# Altium footprint library digital_synth_common.PcbLib: 6 footprints
Each footprint in its own frame and in the unit in brackets; x right, y up, seen from the top. Pads: shape width x height; smd on the part's side, far side on the other; paste and mask are expansions set on the pad; w line width, h text height; cw(c..) or ccw(c..) is an arc to the next point about the centre after c.
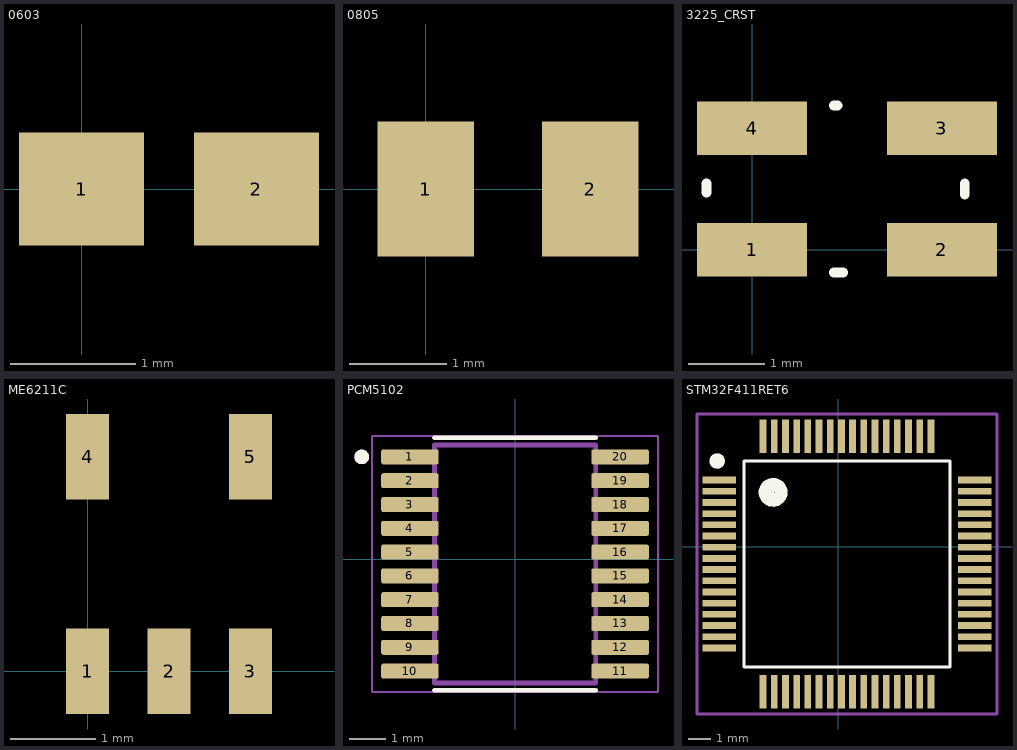
[diagram p0: the footprints below, top view; thin cyan lines are the x and y axes]

## 0603 [mm]
pads (2):
  rect 1x0.9 smd: 1(0,0) 2(1.4,0)
3D body "C0603.STEP": height 0.81, standoff 0.01, extent -0.1,-0.45 1.5,0.451

## 0805 [mm]
pads (2):
  rect 1x1.4 smd: 1(0,0) 2(1.7,0)
3D body "C0805.step": height 0.74, standoff 0.01, extent -0.129,-0.628 1.883,0.628

## 3225_CRST [mm]
pads (4):
  rect 1.45x0.7 smd: 1(0,0) 2(2.5,0) 3(2.5,1.6) 4(0,1.6)
Top Overlay:
  lines w0.127: -0.6,0.75 -0.6,0.875 ; 1.075,-0.3 1.2,-0.3 ; 1.075,1.9 1.125,1.9 ; 2.8,0.725 2.8,0.875
3D body "3225 SMD Crystal Oscillator.step": height 0.7, standoff 0, extent -0.35,-0.45 2.85,2.05

## ME6211C [mm]
pads (5):
  rect 0.5x1 smd: 1(0,0) 2(0.95,0) 3(1.9,0) 4(0,2.5) 5(1.9,2.5)
3D body "ME6211C33M5G.stp": height 1.45, standoff 0, extent -0.502,-0.168 2.433,2.657

## PCM5102 [mm]
pads (20):
  rrect25% 1.57x0.41 smd: 1(-2.87,2.798) 2(-2.87,2.148) 3(-2.87,1.498) 4(-2.87,0.848) 5(-2.87,0.198) 6(-2.87,-0.452) 7(-2.87,-1.102) 8(-2.87,-1.752) 9(-2.87,-2.402) 10(-2.87,-3.052) 11(2.87,-3.052) 12(2.87,-2.402) 13(2.87,-1.752) 14(2.87,-1.102) 15(2.87,-0.452) 16(2.87,0.198) 17(2.87,0.848) 18(2.87,1.498) 19(2.87,2.148) 20(2.87,2.798)
Top Overlay:
  circle w0.2: c-4.19,2.798 r0.1
  lines w0.127: -2.2,-3.577 2.2,-3.577 ; -2.2,3.323 2.2,3.323
Mechanical 13:
  circle w0.2: c-4.19,2.798 r0.1
  lines w0.127: -2.2,-3.377 2.2,-3.377 2.2,3.123 -2.2,3.123 -2.2,-3.377
Mechanical 15:
  lines w0.05: -3.905,-3.627 3.905,-3.627 3.905,3.373 -3.905,3.373 -3.905,-3.627
3D body "PCM5102APWR.step": height 1.2, standoff 0, extent -3.2,-3.377 3.2,3.123

## STM32F411RET6 [mm]
pads (64):
  rect 1.5x0.3 smd: 1(-5.319,2.988) 2(-5.319,2.488) 3(-5.319,1.988) 4(-5.319,1.488) 5(-5.319,0.988) 6(-5.319,0.488) 7(-5.319,-0.012) 8(-5.319,-0.512) 9(-5.319,-1.012) 10(-5.319,-1.512) 11(-5.319,-2.012) 12(-5.319,-2.512) 13(-5.319,-3.012) 14(-5.319,-3.512) 15(-5.319,-4.012) 16(-5.319,-4.512) 33(6.081,-4.512) 34(6.081,-4.012) 35(6.081,-3.512) 36(6.081,-3.012) 37(6.081,-2.512) 38(6.081,-2.012) 39(6.081,-1.512) 40(6.081,-1.012) 41(6.081,-0.512) 42(6.081,-0.012) 43(6.081,0.488) 44(6.081,0.988) 45(6.081,1.488) 46(6.081,1.988) 47(6.081,2.488) 48(6.081,2.988)
  rect 0.3x1.5 smd: 17(-3.369,-6.462) 18(-2.869,-6.462) 19(-2.369,-6.462) 20(-1.869,-6.462) 21(-1.369,-6.462) 22(-0.869,-6.462) 23(-0.369,-6.462) 24(0.131,-6.462) 25(0.631,-6.462) 26(1.131,-6.462) 27(1.631,-6.462) 28(2.131,-6.462) 29(2.631,-6.462) 30(3.131,-6.462) 31(3.631,-6.462) 32(4.131,-6.462) 49(4.131,4.938) 50(3.631,4.938) 51(3.131,4.938) 52(2.631,4.938) 53(2.131,4.938) 54(1.631,4.938) 55(1.131,4.938) 56(0.631,4.938) 57(0.131,4.938) 58(-0.369,4.938) 59(-0.869,4.938) 60(-1.369,4.938) 61(-1.869,4.938) 62(-2.369,4.938) 63(-2.869,4.938) 64(-3.369,4.938)
Top Overlay:
  circle w0.127: c-2.919,2.438 r0.583
  circle w0.127: c-2.919,2.438 r0.566
  circle w0.127: c-2.919,2.438 r0.5
  circle w0.127: c-2.919,2.438 r0.424
  circle w0.127: c-2.919,2.438 r0.283
  circle w0.127: c-2.919,2.438 r0.361
  circle w0.127: c-2.919,2.438 r0.141
  circle w0.127: c-2.919,2.438 r0.224
  circle w0.127: c-3.019,2.438 r0.1
  circle w0.127: c-5.419,3.838 r0.283
  circle w0.127: c-5.419,3.838 r0.224
  circle w0.127: c-5.419,3.838 r0.141
  circle w0.127: c-5.419,3.838 r0.1
  circle w0.127: c-5.419,3.838 r0.141
  circle w0.127: c-5.519,3.838 r0.1
  lines w0.127: -4.219,-5.362 4.981,-5.362 4.981,3.838 -4.219,3.838 -4.219,-5.362
Mechanical 15:
  lines w0.127: -6.319,-7.462 7.081,-7.462 7.081,5.938 -6.319,5.938 -6.319,-7.462
3D body "step_temp.STEP": height 1.6, standoff 0, extent -5.619,-6.762 6.381,5.238